# Altium footprint library ESP32S3DevKitC1UN8R8.PcbLib: 1 footprints
Each footprint in its own frame and in the unit in brackets; x right, y up, seen from the top. Pads: shape width x height; smd on the part's side, far side on the other; paste and mask are expansions set on the pad; w line width, h text height; cw(c..) or ccw(c..) is an arc to the next point about the centre after c.
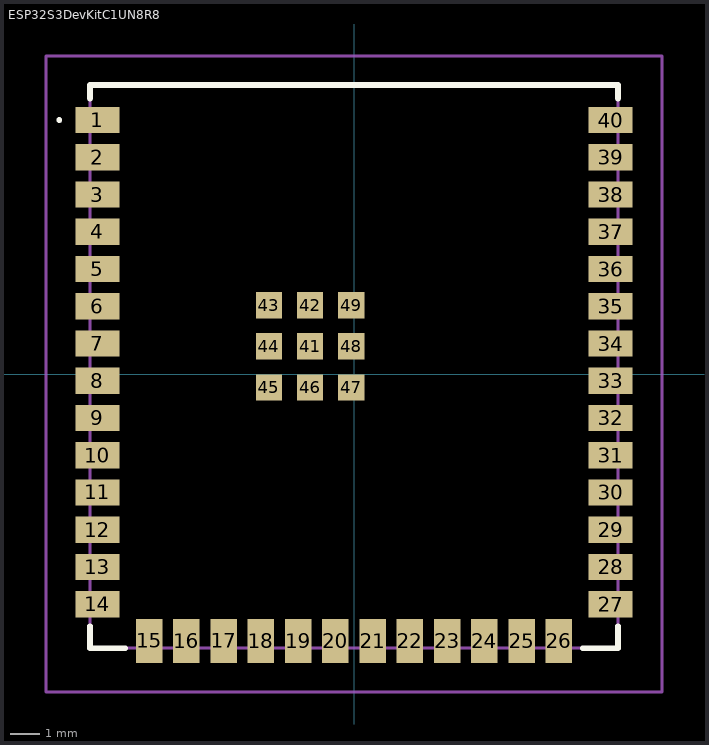
[diagram p0: the footprint, top view; thin cyan lines are the x and y axes]

## ESP32S3DevKitC1UN8R8 [mm]
pads (49):
  rect 1.5x0.9 smd: 1(-8.75,8.66) 2(-8.75,7.39) 3(-8.75,6.12) 4(-8.75,4.85) 5(-8.75,3.58) 6(-8.75,2.31) 7(-8.75,1.04) 8(-8.75,-0.23) 9(-8.75,-1.5) 10(-8.75,-2.77) 11(-8.75,-4.04) 12(-8.75,-5.31) 13(-8.75,-6.58) 14(-8.75,-7.85) 27(8.75,-7.85) 28(8.75,-6.58) 29(8.75,-5.31) 30(8.75,-4.04) 31(8.75,-2.77) 32(8.75,-1.5) 33(8.75,-0.23) 34(8.75,1.04) 35(8.75,2.31) 36(8.75,3.58) 37(8.75,4.85) 38(8.75,6.12) 39(8.75,7.39) 40(8.75,8.66)
  rect 0.9x1.5 smd: 15(-6.985,-9.1) 16(-5.715,-9.1) 17(-4.445,-9.1) 18(-3.175,-9.1) 19(-1.905,-9.1) 20(-0.635,-9.1) 21(0.635,-9.1) 22(1.905,-9.1) 23(3.175,-9.1) 24(4.445,-9.1) 25(5.715,-9.1) 26(6.985,-9.1)
  rect 0.9x0.9 smd: 41(-1.5,0.94) 42(-1.5,2.34) 43(-2.9,2.34) 44(-2.9,0.94) 45(-2.9,-0.46) 46(-1.5,-0.46) 47(-0.1,-0.46) 48(-0.1,0.94) 49(-0.1,2.34)
Top Overlay:
  lines w0.1: -10.1,8.66 -10.1,8.66 ; -10.1,8.66 ccw(c-10.05,8.66) -10,8.66 ; -10.1,8.66 cw(c-10.05,8.66) -10,8.66 ; -10,8.66 -10,8.66
  lines w0.2: -9,-8.6 -9,-9.35 -7.8,-9.35 ; -9,9.4 -9,9.85 9,9.85 9,9.4 ; 7.8,-9.35 9,-9.35 9,-8.6
Mechanical 15:
  lines w0.1: -9,-9.35 9,-9.35 9,9.85 -9,9.85 -9,-9.35
Mechanical 20:
  lines w0.1: -10.5,-10.85 10.5,-10.85 10.5,10.85 -10.5,10.85 -10.5,-10.85